# Altium integrated library STMicroelectronics STM32 L1.IntLib: 169 symbols (part 14 of 20)
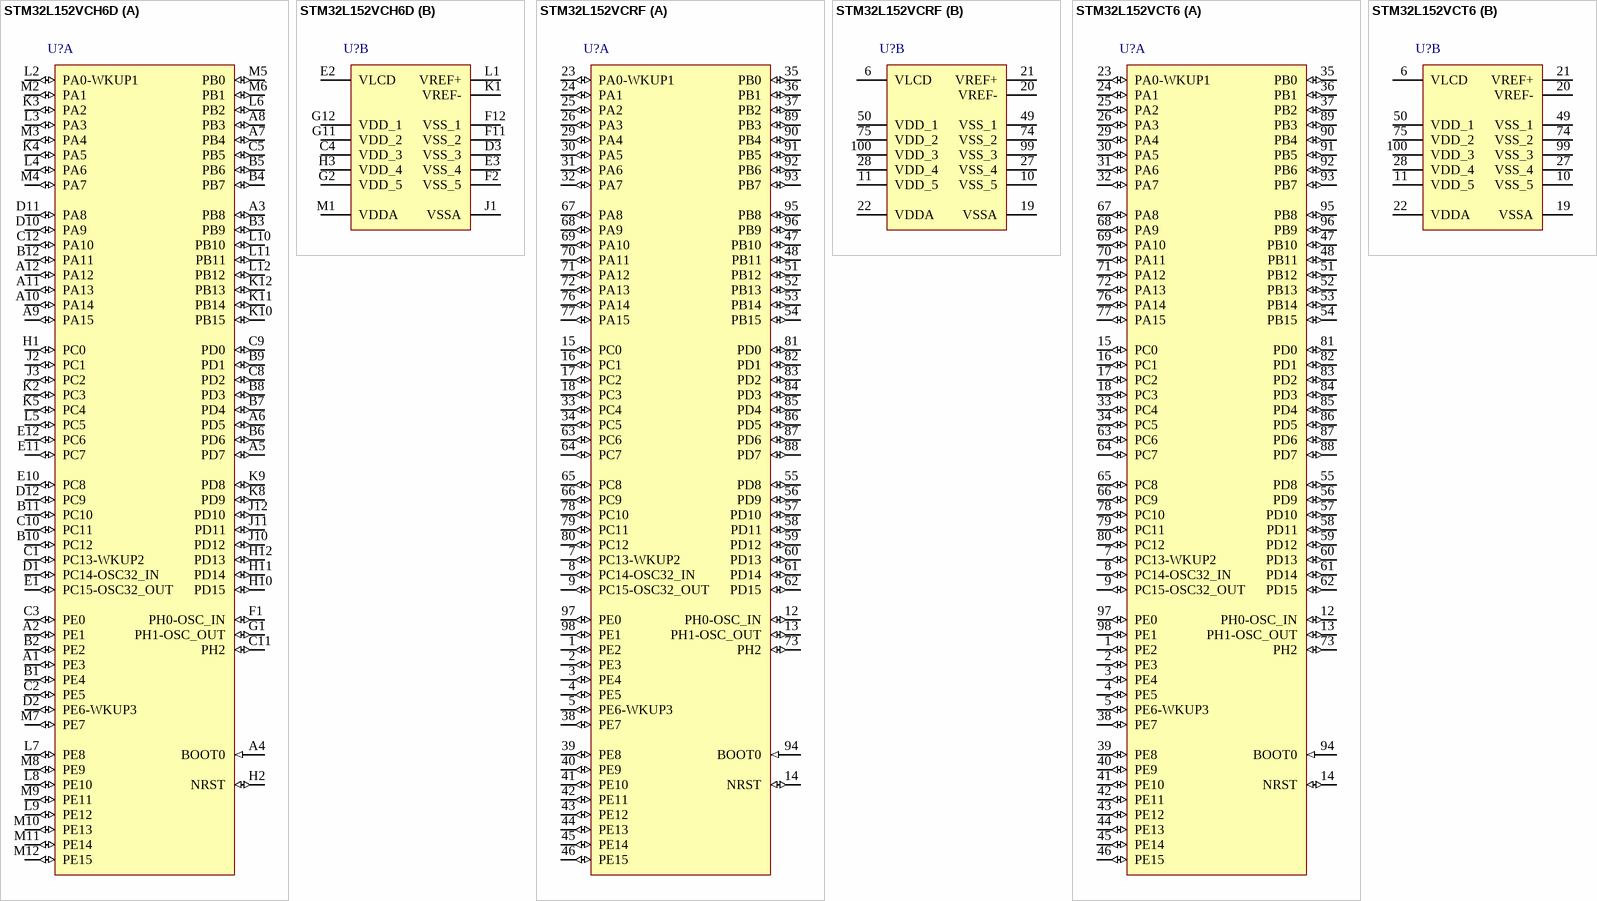
[diagram p47: symbols STM32L152VCH6D to STM32L152VCT6]

## STM32L152VCT6
designator U?
ARM Cortex-M3 32-bit MCU, 256 KB Flash, 32 KB Internal RAM, 83 I/Os, 100-pin LQFP, -40 to 85 degC, Tray; Manufacturer: STMicroelectronics; PartNumber: STM32L152VCT6; D/A Converter: 2x12-bit (2 Channel); Data E2PROM nom (B): 8192; Display controller: LCD 4x44/8x40; FLASH Size (Prog) (kB): 256; I/Os (High Current): 83; Internal RAM Size (kB): 32; Supply Voltage(Vcc) min (V): 1.65; DatasheetVersion: Rev. 3; PackageVersion: Rev. 1, 06/2013; PackageReference: LQFP100; PackageDescription: 100-Pin Low Profile Quad Flat Package, 14 x 14 mm Body, 0.5 mm Pitch; Core: ARM Cortex-M3; Operating Frequency(F) (Processor speed) (MHz): 32; Packing: Tray; Mounting Technology: Surface Mount; ComponentLink1Description: Manufacturer URL; ComponentLink1URL: http://www.st.com/web/en/home.html; ComponentLink2Description: Datasheet; ComponentLink2URL: http://www.st.com/st-web-ui/static/active/en/resource/technical/document/datasheet/DM00048356.pdf; ComponentLink3Description: Package Specification; ComponentLink3URL: http://www.st.com/st-web-ui/static/active/en/resource/technical/document/data_brief/DM00071938.pdf
footprint STM-LQFP100_N (Thin QFP, 100-Leads, Body 14x14mm, Pitch 0.5mm, IPC Medium Density)
footprint STM-LQFP100_L (Thin QFP, 100-Leads, Body 14x14mm, Pitch 0.5mm, IPC High Density)
footprint STM-LQFP100_M (Thin QFP, 100-Leads, Body 14x14mm, Pitch 0.5mm, IPC Low Density)
footprint STM-LQFP100_V (Thin QFP, 100-Leads, Body 14x14mm, Pitch 0.5mm, ST Recommended)
part A pins: 1 PE2 (io) "PE2/TIM3_ETR/LCD_SEG38/TRACECLK", 2 PE3 (io) "PE3/TIM3_CH1/LCD_SEG39/TRACED0", 3 PE4 (io) "PE4/TIM3_CH2/TRACED1", 4 PE5 (io) "PE5/TIM9_CH1/TRACED2", 5 PE6-WKUP3 (io) "PE6-WKUP3/PE6/WKUP3/RTC_TAMP3/TIM9_CH2/TRACED3", 7 PC13-WKUP2 (io) "PC13-WKUP2/PC13/WKUP2/RTC_TAMP1/RTC_TS/RTC_OUT", 8 PC14-OSC32_IN (io) "PC14-OSC32_IN/PC14/OSC32_IN", 9 PC15-OSC32_OUT (io) "PC15-OSC32_OUT/PC15/OSC32_OUT", 12 PH0-OSC_IN (io) "PH0-OSC_IN/PH0/OSC_IN", 13 PH1-OSC_OUT (io) "PH1-OSC_OUT/PH1/OSC_OUT", 14 NRST (io), 15 PC0 (io) "PC0/LCD_SEG18/ADC_IN10/COMP1_INP", 16 PC1 (io) "PC1/LCD_SEG19/ADC_IN11/COMP1_INP", 17 PC2 (io) "PC2/LCD_SEG20/ADC_IN12/COMP1_INP", 18 PC3 (io) "PC3/LCD_SEG21/ADC_IN13/COMP1_INP", 23 PA0-WKUP1 (io) "PA0-WKUP1/PA0/WKUP1/RTC_TAMP2/TIM2_CH1_ETR/TIM5_CH1/USART2_CTS/ADC_IN0/COMP1_INP", 24 PA1 (io) "PA1/TIM2_CH2/TIM5_CH2/USART2_RTS/LCD_SEG0/ADC_IN1/COMP1_INP/OPAMP1_VINP", 25 PA2 (io) "PA2/TIM2_CH3/TIM5_CH3/TIM9_CH1/USART2_TX/LCD_SEG1/ADC_IN2/COMP1_INP/OPAMP1_VINM", 26 PA3 (io) "PA3/TIM2_CH4/TIM5_CH4/TIM9_CH2/USART2_RX/LCD_SEG2/ADC_IN3/COMP1_INP/OPAMP1_VOUT", 29 PA4 (io) "PA4/SPI1_NSS/SPI3_NSS/I2S3_WS/USART2_CK/ADC_IN4/DAC_OUT1/COMP1_INP", 30 PA5 (io) "PA5/TIM2_CH1_ETR/SPI1_SCK/ADC_IN5/DAC_OUT2/COMP1_INP", 31 PA6 (io) "PA6/TIM3_CH1/TIM10_CH1/SPI1_MISO/LCD_SEG3/ADC_IN6/COMP1_INP/OPAMP2_VINP", 32 PA7 (io) "PA7/TIM3_CH2/TIM11_CH1/SPI1_MOSI/LCD_SEG4/ADC_IN7/COMP1_INP/OPAMP2_VINM", 33 PC4 (io) "PC4/LCD_SEG22/ADC_IN14/COMP1_INP", 34 PC5 (io) "PC5/LCD_SEG23/ADC_IN15/COMP1_INP", 35 PB0 (io) "PB0/TIM3_CH3/LCD_SEG5/ADC_IN8/COMP1_INP/VREF_OUT/OPAMP2_VOUT", 36 PB1 (io) "PB1/TIM3_CH4/LCD_SEG6/ADC_IN9/COMP1_INP/VREF_OUT", 37 PB2 (io) "PB2/BOOT1/COMP1_INP", 38 PE7 (io) "PE7/ADC_IN22/COMP1_INP", 39 PE8 (io) "PE8/ADC_IN23/COMP1_INP", 40 PE9 (io) "PE9/TIM2_CH1_ETR/ADC_IN24/COMP1_INP/TIM5_ETR", 41 PE10 (io) "PE10/TIM2_CH2/ADC_IN25/COMP1_INP", 42 PE11 (io) "PE11/TIM2_CH3", 43 PE12 (io) "PE12/TIM2_CH4/SPI1_NSS", 44 PE13 (io) "PE13/SPI1_SCK", 45 PE14 (io) "PE14/SPI1_MISO", 46 PE15 (io) "PE15/SPI1_MOSI", 47 PB10 (io) "PB10/TIM2_CH3/I2C2_SCL/USART3_TX/LCD_SEG10", 48 PB11 (io) "PB11/TIM2_CH4/I2C2_SDA/USART3_RX/LCD_SEG11", 51 PB12 (io) "PB12/TIM10_CH1/I2C2_SMBA/SPI2_NSS/I2S2_WS/USART3_CK/LCD_SEG12/ADC_IN18/COMP1_INP", 52 PB13 (io) "PB13/TIM9_CH1/SPI2_SCK/I2S2_CK/USART3_CTS/LCD_SEG13/ADC_IN19/COMP1_INP", 53 PB14 (io) "PB14/TIM9_CH2/SPI2_MISO/USART3_RTS/LCD_SEG14/ADC_IN20/COMP1_INP", 54 PB15 (io) "PB15/TIM11_CH1/SPI2_MOSI/I2S2_SD/LCD_SEG15/ADC_IN21/COMP1_INP/RTC_REFIN", 55 PD8 (io) "PD8/USART3_TX/LCD_SEG28", 56 PD9 (io) "PD9/USART3_RX/LCD_SEG29", 57 PD10 (io) "PD10/USART3_CK/LCD_SEG30", 58 PD11 (io) "PD11/USART3_CTS/LCD_SEG31", 59 PD12 (io) "PD12/TIM4_CH1/USART3_RTS/LCD_SEG32", 60 PD13 (io) "PD13/TIM4_CH2/LCD_SEG33", 61 PD14 (io) "PD14/TIM4_CH3/LCD_SEG34", 62 PD15 (io) "PD15/TIM4_CH4/LCD_SEG35", 63 PC6 (io) "PC6/TIM3_CH1/I2S2_MCK/LCD_SEG24", 64 PC7 (io) "PC7/TIM3_CH2/I2S3_MCK/LCD_SEG25", 65 PC8 (io) "PC8/TIM3_CH3/LCD_SEG26", 66 PC9 (io) "PC9/TIM3_CH4/LCD_SEG27", 67 PA8 (io) "PA8/USART1_CK/MCO/LCD_COM0", 68 PA9 (io) "PA9/USART1_TX/LCD_COM1", 69 PA10 (io) "PA10/USART1_RX/LCD_COM2", 70 PA11 (io) "PA11/USART1_CTS/USB_DM/SPI1_MISO", 71 PA12 (io) "PA12/USART1_RTS/USB_DP/SPI1_MOSI", 72 PA13 (io) "PA13/JTMS-SWDAT", 73 PH2 (io), 76 PA14 (io) "PA14/JTCK-SWCLK", 77 PA15 (io) "PA15/JTDI/TIM2_CH1_ETR/SPI1_NSS/SPI3_NSS/I2S3_WS/LCD_SEG17", 78 PC10 (io) "PC10/SPI3_SCK/I2S3_CK/USART3_TX/LCD_SEG28/LCD_SEG40/LCD_COM4", 79 PC11 (io) "PC11/SPI3_MISO/USART3_RX/LCD_SEG29/LCD_SEG41/LCD_COM5", 80 PC12 (io) "PC12/SPI3_MOSI/I2S3_SD/USART3_CK/LCD_SEG30/LCD_SEG42/LCD_COM6", 81 PD0 (io) "PD0/TIM9_CH1/SPI2_NSS/I2S2_WS", 82 PD1 (io) "PD1/SPI2_SCK/I2S2_CK", 83 PD2 (io) "PD2/TIM3_ETR/LCD_SEG31/LCD_SEG43/LCD_COM7", 84 PD3 (io) "PD3/SPI2_MISO/USART2_CTS", 85 PD4 (io) "PD4/SPI2_MOSI/I2S2_SD/USART2_RTS", 86 PD5 (io) "PD5/USART2_TX", 87 PD6 (io) "PD6/USART2_RX", 88 PD7 (io) "PD7/TIM9_CH2/USART2_CK", 89 PB3 (io) "PB3/JTDO/TIM2_CH2/SPI1_SCK/SPI3_SCK/I2S3_CK/LCD_SEG7/COMP2_INM", 90 PB4 (io) "PB4/NJTRST/TIM3_CH1/SPI1_MISO/SPI3_MISO/LCD_SEG8/COMP2_INP", 91 PB5 (io) "PB5/TIM3_CH2/I2C1_SMBA/SPI1_MOSI/SPI3_MOSI/I2S3_SD/LCD_SEG9/COMP2_INP", 92 PB6 (io) "PB6/TIM4_CH1/I2C1_SCL/USART1_TX/COMP2_INP", 93 PB7 (io) "PB7/TIM4_CH2/I2C1_SDA/USART1_RX/PVD_IN/COMP2_INP", 94 BOOT0 (in), 95 PB8 (io) "PB8/TIM4_CH3/TIM10_CH1/I2C1_SCL/LCD_SEG16", 96 PB9 (io) "PB9/TIM4_CH4/TIM11_CH1/I2C1_SDA/LCD_COM3", 97 PE0 (io) "PE0/TIM4_ETR/TIM10_CH1/LCD_SEG36", 98 PE1 (io) "PE1/TIM11_CH1/LCD_SEG37"
part B pins: 6 VLCD (power), 10 VSS_5 (power), 11 VDD_5 (power), 19 VSSA (power), 20 VREF- (power), 21 VREF+ (power), 22 VDDA (power), 27 VSS_4 (power), 28 VDD_4 (power), 49 VSS_1 (power), 50 VDD_1 (power), 74 VSS_2 (power), 75 VDD_2 (power), 99 VSS_3 (power), 100 VDD_3 (power)

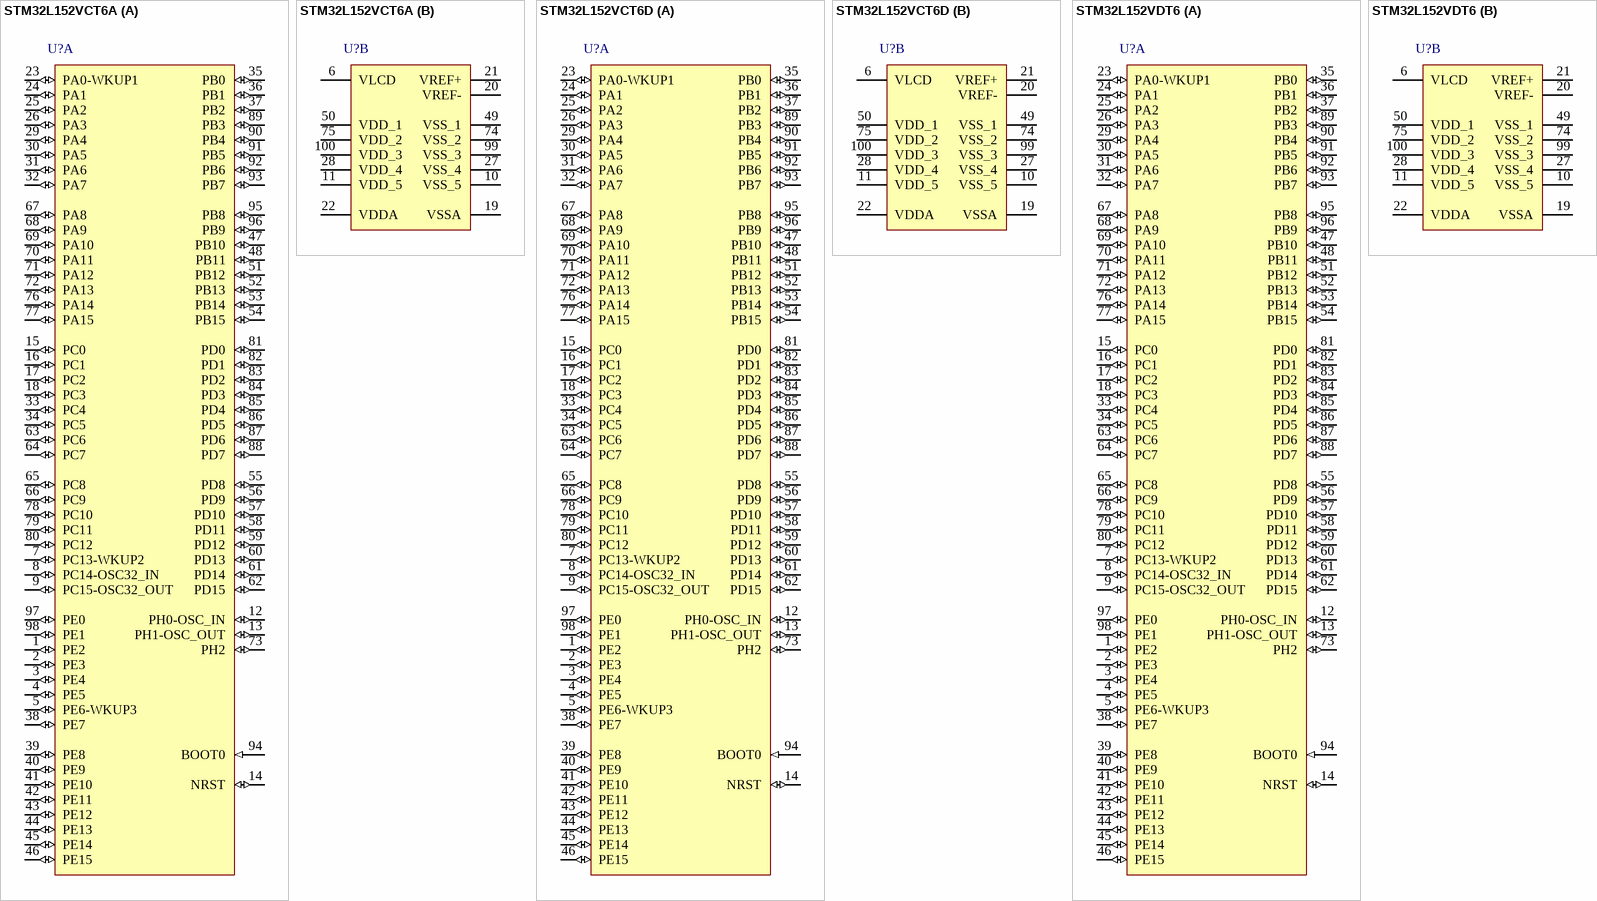
[diagram p23: symbols STM32L152VCT6A to STM32L152VDT6]

## STM32L152VCT6A
designator U?
ARM Cortex-M3 32-bit MCU, 256 KB Flash, 32 KB Internal RAM, 83 I/Os, 100-pin LQFP, -40 to 85 degC, Tray; Manufacturer: STMicroelectronics; PartNumber: STM32L152VCT6A; D/A Converter: 2x12-bit (2 Channel); Data E2PROM nom (B): 8192; Display controller: LCD 4x44/8x40; FLASH Size (Prog) (kB): 256; I/Os (High Current): 83; Internal RAM Size (kB): 32; Supply Voltage(Vcc) min (V): 1.65; DatasheetVersion: Rev. 3; PackageVersion: Rev. 1, 06/2013; PackageReference: LQFP100; PackageDescription: 100-Pin Low Profile Quad Flat Package, 14 x 14 mm Body, 0.5 mm Pitch; Core: ARM Cortex-M3; Operating Frequency(F) (Processor speed) (MHz): 32; Packing: Tray; Mounting Technology: Surface Mount; ComponentLink1Description: Manufacturer URL; ComponentLink1URL: http://www.st.com/web/en/home.html; ComponentLink2Description: Datasheet; ComponentLink2URL: http://www.st.com/st-web-ui/static/active/en/resource/technical/document/datasheet/DM00048356.pdf; ComponentLink3Description: Package Specification; ComponentLink3URL: http://www.st.com/st-web-ui/static/active/en/resource/technical/document/data_brief/DM00071938.pdf
footprint STM-LQFP100_N (Thin QFP, 100-Leads, Body 14x14mm, Pitch 0.5mm, IPC Medium Density)
footprint STM-LQFP100_L (Thin QFP, 100-Leads, Body 14x14mm, Pitch 0.5mm, IPC High Density)
footprint STM-LQFP100_M (Thin QFP, 100-Leads, Body 14x14mm, Pitch 0.5mm, IPC Low Density)
footprint STM-LQFP100_V (Thin QFP, 100-Leads, Body 14x14mm, Pitch 0.5mm, ST Recommended)
part A pins: 1 PE2 (io) "PE2/TIM3_ETR/LCD_SEG38/TRACECLK", 2 PE3 (io) "PE3/TIM3_CH1/LCD_SEG39/TRACED0", 3 PE4 (io) "PE4/TIM3_CH2/TRACED1", 4 PE5 (io) "PE5/TIM9_CH1/TRACED2", 5 PE6-WKUP3 (io) "PE6-WKUP3/PE6/WKUP3/RTC_TAMP3/TIM9_CH2/TRACED3", 7 PC13-WKUP2 (io) "PC13-WKUP2/PC13/WKUP2/RTC_TAMP1/RTC_TS/RTC_OUT", 8 PC14-OSC32_IN (io) "PC14-OSC32_IN/PC14/OSC32_IN", 9 PC15-OSC32_OUT (io) "PC15-OSC32_OUT/PC15/OSC32_OUT", 12 PH0-OSC_IN (io) "PH0-OSC_IN/PH0/OSC_IN", 13 PH1-OSC_OUT (io) "PH1-OSC_OUT/PH1/OSC_OUT", 14 NRST (io), 15 PC0 (io) "PC0/LCD_SEG18/ADC_IN10/COMP1_INP", 16 PC1 (io) "PC1/LCD_SEG19/ADC_IN11/COMP1_INP", 17 PC2 (io) "PC2/LCD_SEG20/ADC_IN12/COMP1_INP", 18 PC3 (io) "PC3/LCD_SEG21/ADC_IN13/COMP1_INP", 23 PA0-WKUP1 (io) "PA0-WKUP1/PA0/WKUP1/RTC_TAMP2/TIM2_CH1_ETR/TIM5_CH1/USART2_CTS/ADC_IN0/COMP1_INP", 24 PA1 (io) "PA1/TIM2_CH2/TIM5_CH2/USART2_RTS/LCD_SEG0/ADC_IN1/COMP1_INP/OPAMP1_VINP", 25 PA2 (io) "PA2/TIM2_CH3/TIM5_CH3/TIM9_CH1/USART2_TX/LCD_SEG1/ADC_IN2/COMP1_INP/OPAMP1_VINM", 26 PA3 (io) "PA3/TIM2_CH4/TIM5_CH4/TIM9_CH2/USART2_RX/LCD_SEG2/ADC_IN3/COMP1_INP/OPAMP1_VOUT", 29 PA4 (io) "PA4/SPI1_NSS/SPI3_NSS/I2S3_WS/USART2_CK/ADC_IN4/DAC_OUT1/COMP1_INP", 30 PA5 (io) "PA5/TIM2_CH1_ETR/SPI1_SCK/ADC_IN5/DAC_OUT2/COMP1_INP", 31 PA6 (io) "PA6/TIM3_CH1/TIM10_CH1/SPI1_MISO/LCD_SEG3/ADC_IN6/COMP1_INP/OPAMP2_VINP", 32 PA7 (io) "PA7/TIM3_CH2/TIM11_CH1/SPI1_MOSI/LCD_SEG4/ADC_IN7/COMP1_INP/OPAMP2_VINM", 33 PC4 (io) "PC4/LCD_SEG22/ADC_IN14/COMP1_INP", 34 PC5 (io) "PC5/LCD_SEG23/ADC_IN15/COMP1_INP", 35 PB0 (io) "PB0/TIM3_CH3/LCD_SEG5/ADC_IN8/COMP1_INP/VREF_OUT/OPAMP2_VOUT", 36 PB1 (io) "PB1/TIM3_CH4/LCD_SEG6/ADC_IN9/COMP1_INP/VREF_OUT", 37 PB2 (io) "PB2/BOOT1/COMP1_INP", 38 PE7 (io) "PE7/ADC_IN22/COMP1_INP", 39 PE8 (io) "PE8/ADC_IN23/COMP1_INP", 40 PE9 (io) "PE9/TIM2_CH1_ETR/ADC_IN24/COMP1_INP/TIM5_ETR", 41 PE10 (io) "PE10/TIM2_CH2/ADC_IN25/COMP1_INP", 42 PE11 (io) "PE11/TIM2_CH3", 43 PE12 (io) "PE12/TIM2_CH4/SPI1_NSS", 44 PE13 (io) "PE13/SPI1_SCK", 45 PE14 (io) "PE14/SPI1_MISO", 46 PE15 (io) "PE15/SPI1_MOSI", 47 PB10 (io) "PB10/TIM2_CH3/I2C2_SCL/USART3_TX/LCD_SEG10", 48 PB11 (io) "PB11/TIM2_CH4/I2C2_SDA/USART3_RX/LCD_SEG11", 51 PB12 (io) "PB12/TIM10_CH1/I2C2_SMBA/SPI2_NSS/I2S2_WS/USART3_CK/LCD_SEG12/ADC_IN18/COMP1_INP", 52 PB13 (io) "PB13/TIM9_CH1/SPI2_SCK/I2S2_CK/USART3_CTS/LCD_SEG13/ADC_IN19/COMP1_INP", 53 PB14 (io) "PB14/TIM9_CH2/SPI2_MISO/USART3_RTS/LCD_SEG14/ADC_IN20/COMP1_INP", 54 PB15 (io) "PB15/TIM11_CH1/SPI2_MOSI/I2S2_SD/LCD_SEG15/ADC_IN21/COMP1_INP/RTC_REFIN", 55 PD8 (io) "PD8/USART3_TX/LCD_SEG28", 56 PD9 (io) "PD9/USART3_RX/LCD_SEG29", 57 PD10 (io) "PD10/USART3_CK/LCD_SEG30", 58 PD11 (io) "PD11/USART3_CTS/LCD_SEG31", 59 PD12 (io) "PD12/TIM4_CH1/USART3_RTS/LCD_SEG32", 60 PD13 (io) "PD13/TIM4_CH2/LCD_SEG33", 61 PD14 (io) "PD14/TIM4_CH3/LCD_SEG34", 62 PD15 (io) "PD15/TIM4_CH4/LCD_SEG35", 63 PC6 (io) "PC6/TIM3_CH1/I2S2_MCK/LCD_SEG24", 64 PC7 (io) "PC7/TIM3_CH2/I2S3_MCK/LCD_SEG25", 65 PC8 (io) "PC8/TIM3_CH3/LCD_SEG26", 66 PC9 (io) "PC9/TIM3_CH4/LCD_SEG27", 67 PA8 (io) "PA8/USART1_CK/MCO/LCD_COM0", 68 PA9 (io) "PA9/USART1_TX/LCD_COM1", 69 PA10 (io) "PA10/USART1_RX/LCD_COM2", 70 PA11 (io) "PA11/USART1_CTS/USB_DM/SPI1_MISO", 71 PA12 (io) "PA12/USART1_RTS/USB_DP/SPI1_MOSI", 72 PA13 (io) "PA13/JTMS-SWDAT", 73 PH2 (io), 76 PA14 (io) "PA14/JTCK-SWCLK", 77 PA15 (io) "PA15/JTDI/TIM2_CH1_ETR/SPI1_NSS/SPI3_NSS/I2S3_WS/LCD_SEG17", 78 PC10 (io) "PC10/SPI3_SCK/I2S3_CK/USART3_TX/LCD_SEG28/LCD_SEG40/LCD_COM4", 79 PC11 (io) "PC11/SPI3_MISO/USART3_RX/LCD_SEG29/LCD_SEG41/LCD_COM5", 80 PC12 (io) "PC12/SPI3_MOSI/I2S3_SD/USART3_CK/LCD_SEG30/LCD_SEG42/LCD_COM6", 81 PD0 (io) "PD0/TIM9_CH1/SPI2_NSS/I2S2_WS", 82 PD1 (io) "PD1/SPI2_SCK/I2S2_CK", 83 PD2 (io) "PD2/TIM3_ETR/LCD_SEG31/LCD_SEG43/LCD_COM7", 84 PD3 (io) "PD3/SPI2_MISO/USART2_CTS", 85 PD4 (io) "PD4/SPI2_MOSI/I2S2_SD/USART2_RTS", 86 PD5 (io) "PD5/USART2_TX", 87 PD6 (io) "PD6/USART2_RX", 88 PD7 (io) "PD7/TIM9_CH2/USART2_CK", 89 PB3 (io) "PB3/JTDO/TIM2_CH2/SPI1_SCK/SPI3_SCK/I2S3_CK/LCD_SEG7/COMP2_INM", 90 PB4 (io) "PB4/NJTRST/TIM3_CH1/SPI1_MISO/SPI3_MISO/LCD_SEG8/COMP2_INP", 91 PB5 (io) "PB5/TIM3_CH2/I2C1_SMBA/SPI1_MOSI/SPI3_MOSI/I2S3_SD/LCD_SEG9/COMP2_INP", 92 PB6 (io) "PB6/TIM4_CH1/I2C1_SCL/USART1_TX/COMP2_INP", 93 PB7 (io) "PB7/TIM4_CH2/I2C1_SDA/USART1_RX/PVD_IN/COMP2_INP", 94 BOOT0 (in), 95 PB8 (io) "PB8/TIM4_CH3/TIM10_CH1/I2C1_SCL/LCD_SEG16", 96 PB9 (io) "PB9/TIM4_CH4/TIM11_CH1/I2C1_SDA/LCD_COM3", 97 PE0 (io) "PE0/TIM4_ETR/TIM10_CH1/LCD_SEG36", 98 PE1 (io) "PE1/TIM11_CH1/LCD_SEG37"
part B pins: 6 VLCD (power), 10 VSS_5 (power), 11 VDD_5 (power), 19 VSSA (power), 20 VREF- (power), 21 VREF+ (power), 22 VDDA (power), 27 VSS_4 (power), 28 VDD_4 (power), 49 VSS_1 (power), 50 VDD_1 (power), 74 VSS_2 (power), 75 VDD_2 (power), 99 VSS_3 (power), 100 VDD_3 (power)

## STM32L152VCT6D
designator U?
ARM Cortex-M3 32-bit MCU, 256 KB Flash, 32 KB Internal RAM, 83 I/Os, 100-pin LQFP, -40 to 85 degC, Tray; Manufacturer: STMicroelectronics; PartNumber: STM32L152VCT6D; D/A Converter: 2x12-bit (2 Channel); Data E2PROM nom (B): 8192; Display controller: LCD 4x44/8x40; FLASH Size (Prog) (kB): 256; I/Os (High Current): 83; Internal RAM Size (kB): 32; Supply Voltage(Vcc) min (V): 1.65; DatasheetVersion: Rev. 3; PackageVersion: Rev. 1, 06/2013; PackageReference: LQFP100; PackageDescription: 100-Pin Low Profile Quad Flat Package, 14 x 14 mm Body, 0.5 mm Pitch; Core: ARM Cortex-M3; Operating Frequency(F) (Processor speed) (MHz): 32; Packing: Tray; Mounting Technology: Surface Mount; ComponentLink1Description: Manufacturer URL; ComponentLink1URL: http://www.st.com/web/en/home.html; ComponentLink2Description: Datasheet; ComponentLink2URL: http://www.st.com/st-web-ui/static/active/en/resource/technical/document/datasheet/DM00048356.pdf; ComponentLink3Description: Package Specification; ComponentLink3URL: http://www.st.com/st-web-ui/static/active/en/resource/technical/document/data_brief/DM00071938.pdf
footprint STM-LQFP100_N (Thin QFP, 100-Leads, Body 14x14mm, Pitch 0.5mm, IPC Medium Density)
footprint STM-LQFP100_L (Thin QFP, 100-Leads, Body 14x14mm, Pitch 0.5mm, IPC High Density)
footprint STM-LQFP100_M (Thin QFP, 100-Leads, Body 14x14mm, Pitch 0.5mm, IPC Low Density)
footprint STM-LQFP100_V (Thin QFP, 100-Leads, Body 14x14mm, Pitch 0.5mm, ST Recommended)
part A pins: 1 PE2 (io) "PE2/TIM3_ETR/LCD_SEG38/TRACECLK", 2 PE3 (io) "PE3/TIM3_CH1/LCD_SEG39/TRACED0", 3 PE4 (io) "PE4/TIM3_CH2/TRACED1", 4 PE5 (io) "PE5/TIM9_CH1/TRACED2", 5 PE6-WKUP3 (io) "PE6-WKUP3/PE6/WKUP3/RTC_TAMP3/TIM9_CH2/TRACED3", 7 PC13-WKUP2 (io) "PC13-WKUP2/PC13/WKUP2/RTC_TAMP1/RTC_TS/RTC_OUT", 8 PC14-OSC32_IN (io) "PC14-OSC32_IN/PC14/OSC32_IN", 9 PC15-OSC32_OUT (io) "PC15-OSC32_OUT/PC15/OSC32_OUT", 12 PH0-OSC_IN (io) "PH0-OSC_IN/PH0/OSC_IN", 13 PH1-OSC_OUT (io) "PH1-OSC_OUT/PH1/OSC_OUT", 14 NRST (io), 15 PC0 (io) "PC0/LCD_SEG18/ADC_IN10/COMP1_INP", 16 PC1 (io) "PC1/LCD_SEG19/ADC_IN11/COMP1_INP", 17 PC2 (io) "PC2/LCD_SEG20/ADC_IN12/COMP1_INP", 18 PC3 (io) "PC3/LCD_SEG21/ADC_IN13/COMP1_INP", 23 PA0-WKUP1 (io) "PA0-WKUP1/PA0/WKUP1/RTC_TAMP2/TIM2_CH1_ETR/TIM5_CH1/USART2_CTS/ADC_IN0/COMP1_INP", 24 PA1 (io) "PA1/TIM2_CH2/TIM5_CH2/USART2_RTS/LCD_SEG0/ADC_IN1/COMP1_INP/OPAMP1_VINP", 25 PA2 (io) "PA2/TIM2_CH3/TIM5_CH3/TIM9_CH1/USART2_TX/LCD_SEG1/ADC_IN2/COMP1_INP/OPAMP1_VINM", 26 PA3 (io) "PA3/TIM2_CH4/TIM5_CH4/TIM9_CH2/USART2_RX/LCD_SEG2/ADC_IN3/COMP1_INP/OPAMP1_VOUT", 29 PA4 (io) "PA4/SPI1_NSS/SPI3_NSS/I2S3_WS/USART2_CK/ADC_IN4/DAC_OUT1/COMP1_INP", 30 PA5 (io) "PA5/TIM2_CH1_ETR/SPI1_SCK/ADC_IN5/DAC_OUT2/COMP1_INP", 31 PA6 (io) "PA6/TIM3_CH1/TIM10_CH1/SPI1_MISO/LCD_SEG3/ADC_IN6/COMP1_INP/OPAMP2_VINP", 32 PA7 (io) "PA7/TIM3_CH2/TIM11_CH1/SPI1_MOSI/LCD_SEG4/ADC_IN7/COMP1_INP/OPAMP2_VINM", 33 PC4 (io) "PC4/LCD_SEG22/ADC_IN14/COMP1_INP", 34 PC5 (io) "PC5/LCD_SEG23/ADC_IN15/COMP1_INP", 35 PB0 (io) "PB0/TIM3_CH3/LCD_SEG5/ADC_IN8/COMP1_INP/VREF_OUT/OPAMP2_VOUT", 36 PB1 (io) "PB1/TIM3_CH4/LCD_SEG6/ADC_IN9/COMP1_INP/VREF_OUT", 37 PB2 (io) "PB2/BOOT1/COMP1_INP", 38 PE7 (io) "PE7/ADC_IN22/COMP1_INP", 39 PE8 (io) "PE8/ADC_IN23/COMP1_INP", 40 PE9 (io) "PE9/TIM2_CH1_ETR/ADC_IN24/COMP1_INP/TIM5_ETR", 41 PE10 (io) "PE10/TIM2_CH2/ADC_IN25/COMP1_INP", 42 PE11 (io) "PE11/TIM2_CH3", 43 PE12 (io) "PE12/TIM2_CH4/SPI1_NSS", 44 PE13 (io) "PE13/SPI1_SCK", 45 PE14 (io) "PE14/SPI1_MISO", 46 PE15 (io) "PE15/SPI1_MOSI", 47 PB10 (io) "PB10/TIM2_CH3/I2C2_SCL/USART3_TX/LCD_SEG10", 48 PB11 (io) "PB11/TIM2_CH4/I2C2_SDA/USART3_RX/LCD_SEG11", 51 PB12 (io) "PB12/TIM10_CH1/I2C2_SMBA/SPI2_NSS/I2S2_WS/USART3_CK/LCD_SEG12/ADC_IN18/COMP1_INP", 52 PB13 (io) "PB13/TIM9_CH1/SPI2_SCK/I2S2_CK/USART3_CTS/LCD_SEG13/ADC_IN19/COMP1_INP", 53 PB14 (io) "PB14/TIM9_CH2/SPI2_MISO/USART3_RTS/LCD_SEG14/ADC_IN20/COMP1_INP", 54 PB15 (io) "PB15/TIM11_CH1/SPI2_MOSI/I2S2_SD/LCD_SEG15/ADC_IN21/COMP1_INP/RTC_REFIN", 55 PD8 (io) "PD8/USART3_TX/LCD_SEG28", 56 PD9 (io) "PD9/USART3_RX/LCD_SEG29", 57 PD10 (io) "PD10/USART3_CK/LCD_SEG30", 58 PD11 (io) "PD11/USART3_CTS/LCD_SEG31", 59 PD12 (io) "PD12/TIM4_CH1/USART3_RTS/LCD_SEG32", 60 PD13 (io) "PD13/TIM4_CH2/LCD_SEG33", 61 PD14 (io) "PD14/TIM4_CH3/LCD_SEG34", 62 PD15 (io) "PD15/TIM4_CH4/LCD_SEG35", 63 PC6 (io) "PC6/TIM3_CH1/I2S2_MCK/LCD_SEG24", 64 PC7 (io) "PC7/TIM3_CH2/I2S3_MCK/LCD_SEG25", 65 PC8 (io) "PC8/TIM3_CH3/LCD_SEG26", 66 PC9 (io) "PC9/TIM3_CH4/LCD_SEG27", 67 PA8 (io) "PA8/USART1_CK/MCO/LCD_COM0", 68 PA9 (io) "PA9/USART1_TX/LCD_COM1", 69 PA10 (io) "PA10/USART1_RX/LCD_COM2", 70 PA11 (io) "PA11/USART1_CTS/USB_DM/SPI1_MISO", 71 PA12 (io) "PA12/USART1_RTS/USB_DP/SPI1_MOSI", 72 PA13 (io) "PA13/JTMS-SWDAT", 73 PH2 (io), 76 PA14 (io) "PA14/JTCK-SWCLK", 77 PA15 (io) "PA15/JTDI/TIM2_CH1_ETR/SPI1_NSS/SPI3_NSS/I2S3_WS/LCD_SEG17", 78 PC10 (io) "PC10/SPI3_SCK/I2S3_CK/USART3_TX/LCD_SEG28/LCD_SEG40/LCD_COM4", 79 PC11 (io) "PC11/SPI3_MISO/USART3_RX/LCD_SEG29/LCD_SEG41/LCD_COM5", 80 PC12 (io) "PC12/SPI3_MOSI/I2S3_SD/USART3_CK/LCD_SEG30/LCD_SEG42/LCD_COM6", 81 PD0 (io) "PD0/TIM9_CH1/SPI2_NSS/I2S2_WS", 82 PD1 (io) "PD1/SPI2_SCK/I2S2_CK", 83 PD2 (io) "PD2/TIM3_ETR/LCD_SEG31/LCD_SEG43/LCD_COM7", 84 PD3 (io) "PD3/SPI2_MISO/USART2_CTS", 85 PD4 (io) "PD4/SPI2_MOSI/I2S2_SD/USART2_RTS", 86 PD5 (io) "PD5/USART2_TX", 87 PD6 (io) "PD6/USART2_RX", 88 PD7 (io) "PD7/TIM9_CH2/USART2_CK", 89 PB3 (io) "PB3/JTDO/TIM2_CH2/SPI1_SCK/SPI3_SCK/I2S3_CK/LCD_SEG7/COMP2_INM", 90 PB4 (io) "PB4/NJTRST/TIM3_CH1/SPI1_MISO/SPI3_MISO/LCD_SEG8/COMP2_INP", 91 PB5 (io) "PB5/TIM3_CH2/I2C1_SMBA/SPI1_MOSI/SPI3_MOSI/I2S3_SD/LCD_SEG9/COMP2_INP", 92 PB6 (io) "PB6/TIM4_CH1/I2C1_SCL/USART1_TX/COMP2_INP", 93 PB7 (io) "PB7/TIM4_CH2/I2C1_SDA/USART1_RX/PVD_IN/COMP2_INP", 94 BOOT0 (in), 95 PB8 (io) "PB8/TIM4_CH3/TIM10_CH1/I2C1_SCL/LCD_SEG16", 96 PB9 (io) "PB9/TIM4_CH4/TIM11_CH1/I2C1_SDA/LCD_COM3", 97 PE0 (io) "PE0/TIM4_ETR/TIM10_CH1/LCD_SEG36", 98 PE1 (io) "PE1/TIM11_CH1/LCD_SEG37"
part B pins: 6 VLCD (power), 10 VSS_5 (power), 11 VDD_5 (power), 19 VSSA (power), 20 VREF- (power), 21 VREF+ (power), 22 VDDA (power), 27 VSS_4 (power), 28 VDD_4 (power), 49 VSS_1 (power), 50 VDD_1 (power), 74 VSS_2 (power), 75 VDD_2 (power), 99 VSS_3 (power), 100 VDD_3 (power)

## STM32L152VDT6
designator U?
ARM Cortex-M3 32-bit MCU, 384 KB Flash, 48 KB Internal RAM, 83 I/Os, 100-pin LQFP, -40 to 85 degC, Tray; Manufacturer: STMicroelectronics; PartNumber: STM32L152VDT6; D/A Converter: 2x12-bit (2 Channel); Data E2PROM nom (B): 12288; FLASH Size (Prog) (kB): 384; I/Os (High Current): 83; Integrated op-amps: 3; Internal RAM Size (kB): 48; Operating Frequency(F) (Processor speed) (MHz): 32; Supply Voltage(Vcc) min (V): 1.65; DatasheetVersion: Rev. 6; PackageVersion: Rev. 1, 06/2013; PackageReference: LQFP100; PackageDescription: 100-Pin Low Profile Quad Flat Package, 14 x 14 mm Body, 0.5 mm Pitch; Core: ARM Cortex-M3; Packing: Tray; Mounting Technology: Surface Mount; ComponentLink1Description: Manufacturer URL; ComponentLink1URL: http://www.st.com/web/en/home.html; ComponentLink2Description: Datasheet; ComponentLink2URL: http://www.st.com/st-web-ui/static/active/en/resource/technical/document/datasheet/DM00034689.pdf; ComponentLink3Description: Package Specification; ComponentLink3URL: http://www.st.com/st-web-ui/static/active/en/resource/technical/document/data_brief/DM00071938.pdf
footprint STM-LQFP100_N (Thin QFP, 100-Leads, Body 14x14mm, Pitch 0.5mm, IPC Medium Density)
footprint STM-LQFP100_L (Thin QFP, 100-Leads, Body 14x14mm, Pitch 0.5mm, IPC High Density)
footprint STM-LQFP100_M (Thin QFP, 100-Leads, Body 14x14mm, Pitch 0.5mm, IPC Low Density)
footprint STM-LQFP100_V (Thin QFP, 100-Leads, Body 14x14mm, Pitch 0.5mm, ST Recommended)
part A pins: 1 PE2 (io) "PE2/TIM3_ETR/LCD_SEG38/FSMC_A23/TRACECLK", 2 PE3 (io) "PE3/TIM3_CH1/LCD_SEG39/FSMC_A19/TRACED0", 3 PE4 (io) "PE4/TIM3_CH2/FSMC_A20/TRACED1", 4 PE5 (io) "PE5/TIM9_CH1/FSMC_A21/TRACED2", 5 PE6-WKUP3 (io) "PE6-WKUP3/PE6/WKUP3/RTC_TAMP3/TIM9_CH2/TRACED3", 7 PC13-WKUP2 (io) "PC13-WKUP2/PC13/WKUP2/RTC_TAMP1/RTC_TS/RTC_OUT", 8 PC14-OSC32_IN (io) "PC14-OSC32_IN/PC14/OSC32_IN", 9 PC15-OSC32_OUT (io) "PC15-OSC32_OUT/PC15/OSC32_OUT", 12 PH0-OSC_IN (io) "PH0-OSC_IN/PH0/OSC_IN", 13 PH1-OSC_OUT (io) "PH1-OSC_OUT/PH1/OSC_OUT", 14 NRST (io), 15 PC0 (io) "PC0/LCD_SEG18/ADC_IN10/COMP1_INP", 16 PC1 (io) "PC1/LCD_SEG19/ADC_IN11/COMP1_INP/OPAMP3_VINP", 17 PC2 (io) "PC2/LCD_SEG20/ADC_IN12/COMP1_INP/OPAMP3_VINM", 18 PC3 (io) "PC3/LCD_SEG21/ADC_IN13/COMP1_INP/OPAMP3_VOUT", 23 PA0-WKUP1 (io) "PA0-WKUP1/PA0/WKUP1/RTC_TAMP2/TIM2_CH1_ETR/TIM5_CH1/USART2_CTS/ADC_IN0/COMP1_INP", 24 PA1 (io) "PA1/TIM2_CH2/TIM5_CH2/USART2_RTS/LCD_SEG0/ADC_IN1/COMP1_INP/OPAMP1_VINP", 25 PA2 (io) "PA2/TIM2_CH3/TIM5_CH3/TIM9_CH1/USART2_TX/LCD_SEG1/ADC_IN2/COMP1_INP/OPAMP1_VINM", 26 PA3 (io) "PA3/TIM2_CH4/TIM5_CH4/TIM9_CH2/USART2_RX/LCD_SEG2/ADC_IN3/COMP1_INP/OPAMP1_VOUT", 29 PA4 (io) "PA4/SPI1_NSS/SPI3_NSS/I2S3_WS/USART2_CK/ADC_IN4/DAC_OUT1/COMP1_INP", 30 PA5 (io) "PA5/TIM2_CH1_ETR/SPI1_SCK/ADC_IN5/DAC_OUT2/COMP1_INP", 31 PA6 (io) "PA6/TIM3_CH1/TIM10_CH1/SPI1_MISO/LCD_SEG3/ADC_IN6/COMP1_INP/OPAMP2_VINP", 32 PA7 (io) "PA7/TIM3_CH2/TIM11_CH1/SPI1_MOSI/LCD_SEG4/ADC_IN7/COMP1_INP/OPAMP2_VINM", 33 PC4 (io) "PC4/LCD_SEG22/ADC_IN14/COMP1_INP", 34 PC5 (io) "PC5/LCD_SEG23/ADC_IN15/COMP1_INP", 35 PB0 (io) "PB0/TIM3_CH3/LCD_SEG5/ADC_IN8/COMP1_INP/VREF_OUT/OPAMP2_VOUT", 36 PB1 (io) "PB1/TIM3_CH4/LCD_SEG6/ADC_IN9/COMP1_INP/VREF_OUT", 37 PB2 (io) "PB2/BOOT1/COMP1_INP", 38 PE7 (io) "PE7/FSMC_D4/ADC_IN22/COMP1_INP", 39 PE8 (io) "PE8/FSMC_D5/ADC_IN23/COMP1_INP", 40 PE9 (io) "PE9/TIM2_CH1_ETR/FSMC_D6/ADC_IN24/COMP1_INP", 41 PE10 (io) "PE10/TIM2_CH2/FSMC_D7/ADC_IN25/COMP1_INP", 42 PE11 (io) "PE11/TIM2_CH3/FSMC_D8", 43 PE12 (io) "PE12/TIM2_CH4/SPI1_NSS/FSMC_D9", 44 PE13 (io) "PE13/SPI1_SCK/FSMC_D10", 45 PE14 (io) "PE14/SPI1_MISO/FSMC_D11", 46 PE15 (io) "PE15/SPI1_MOSI/FSMC_D12", 47 PB10 (io) "PB10/TIM2_CH3/I2C2_SCL/USART3_TX/LCD_SEG10", 48 PB11 (io) "PB11/TIM2_CH4/I2C2_SDA/USART3_RX/LCD_SEG11", 51 PB12 (io) "PB12/TIM10_CH1/I2C2_SMBA/SPI2_NSS/I2S2_WS/USART3_CK/LCD_SEG12/ADC_IN18/COMP1_INP", 52 PB13 (io) "PB13/TIM9_CH1/SPI2_SCK/I2S2_CK/USART3_CTS/LCD_SEG13/ADC_IN19/COMP1_INP", 53 PB14 (io) "PB14/TIM9_CH2/SPI2_MISO/USART3_RTS/LCD_SEG14/ADC_IN20/COMP1_INP", 54 PB15 (io) "PB15/TIM11_CH1/SPI2_MOSI/I2S2_SD/LCD_SEG15/ADC_IN21/COMP1_INP/RTC_REFIN", 55 PD8 (io) "PD8/USART3_TX/LCD_SEG28/FSMC_D13", 56 PD9 (io) "PD9/USART3_RX/LCD_SEG29/FSMC_D14", 57 PD10 (io) "PD10/USART3_CK/LCD_SEG30/FSMC_D15", 58 PD11 (io) "PD11/USART3_CTS/LCD_SEG31/FSMC_A16", 59 PD12 (io) "PD12/TIM4_CH1/USART3_RTS/LCD_SEG32/FSMC_A17", 60 PD13 (io) "PD13/TIM4_CH2/LCD_SEG33/FSMC_A18", 61 PD14 (io) "PD14/TIM4_CH3/LCD_SEG34/FSMC_D0", 62 PD15 (io) "PD15/TIM4_CH4/LCD_SEG35/FSMC_D1", 63 PC6 (io) "PC6/TIM3_CH1/I2S2_MCK/LCD_SEG24/SDIO_D6", 64 PC7 (io) "PC7/TIM3_CH2/I2S3_MCK/LCD_SEG25/SDIO_D7", 65 PC8 (io) "PC8/TIM3_CH3/LCD_SEG26/SDIO_D0", 66 PC9 (io) "PC9/TIM3_CH4/LCD_SEG27/SDIO_D1", 67 PA8 (io) "PA8/USART1_CK/MCO/LCD_COM0", 68 PA9 (io) "PA9/USART1_TX/LCD_COM1", 69 PA10 (io) "PA10/USART1_RX/LCD_COM2", 70 PA11 (io) "PA11/USART1_CTS/USB_DM/SPI1_MISO", 71 PA12 (io) "PA12/USART1_RTS/USB_DP/SPI1_MOSI", 72 PA13 (io) "PA13/JTMS-SWDAT", 73 PH2 (io) "PH2/FSMC_A22", 76 PA14 (io) "PA14/JTCK-SWCLK", 77 PA15 (io) "PA15/JTDI/TIM2_CH1_ETR/SPI1_NSS/SPI3_NSS/I2S3_WS/LCD_SEG17", 78 PC10 (io) "PC10/SPI3_SCK/I2S3_CK/USART3_TX/UART4_TX/LCD_SEG28/LCD_SEG40/LCD_COM4/SDIO_D2", 79 PC11 (io) "PC11/SPI3_MISO/USART3_RX/UART4_RX/LCD_SEG29/LCD_SEG41/LCD_COM5/SDIO_D3", 80 PC12 (io) "PC12/SPI3_MOSI/I2S3_SD/USART3_CK/UART5_TX/LCD_SEG30/LCD_SEG42/LCD_COM6/SDIO_CK", 81 PD0 (io) "PD0/TIM9_CH1/SPI2_NSS/I2S2_WS/FSMC_D2", 82 PD1 (io) "PD1/SPI2_SCK/I2S2_CK/FSMC_D3", 83 PD2 (io) "PD2/TIM3_ETR/UART5_RX/LCD_SEG31/LCD_SEG43/LCD_COM7/SDIO_CMD", 84 PD3 (io) "PD3/SPI2_MISO/USART2_CTS/FSMC_CLK", 85 PD4 (io) "PD4/SPI2_MOSI/I2S2_SD/USART2_RTS/FSMC_NOE", 86 PD5 (io) "PD5/USART2_TX/FSMC_NWE", 87 PD6 (io) "PD6/USART2_RX/FSMC_NWAIT", 88 PD7 (io) "PD7/TIM9_CH2/USART2_CK/FSMC_NE1", 89 PB3 (io) "PB3/JTDO/TIM2_CH2/SPI1_SCK/SPI3_SCK/I2S3_CK/LCD_SEG7/COMP2_INM", 90 PB4 (io) "PB4/NJTRST/TIM3_CH1/SPI1_MISO/SPI3_MISO/LCD_SEG8/COMP2_INP", 91 PB5 (io) "PB5/TIM3_CH2/I2C1_SMBA/SPI1_MOSI/SPI3_MOSI/I2S3_SD/LCD_SEG9/COMP2_INP", 92 PB6 (io) "PB6/TIM4_CH1/I2C1_SCL/USART1_TX/COMP2_INP", 93 PB7 (io) "PB7/TIM4_CH2/I2C1_SDA/USART1_RX/PVD_IN/FSMC_NADV/COMP2_INP", 94 BOOT0 (in), 95 PB8 (io) "PB8/TIM4_CH3/TIM10_CH1/I2C1_SCL/LCD_SEG16/SDIO_D4", 96 PB9 (io) "PB9/TIM4_CH4/TIM11_CH1/I2C1_SDA/LCD_COM3/SDIO_D5", 97 PE0 (io) "PE0/TIM4_ETR/TIM10_CH1/LCD_SEG36/FSMC_NBL0", 98 PE1 (io) "PE1/TIM11_CH1/LCD_SEG37/FSMC_NBL1"
part B pins: 6 VLCD (power), 10 VSS_5 (power), 11 VDD_5 (power), 19 VSSA (power), 20 VREF- (power), 21 VREF+ (power), 22 VDDA (power), 27 VSS_4 (power), 28 VDD_4 (power), 49 VSS_1 (power), 50 VDD_1 (power), 74 VSS_2 (power), 75 VDD_2 (power), 99 VSS_3 (power), 100 VDD_3 (power)

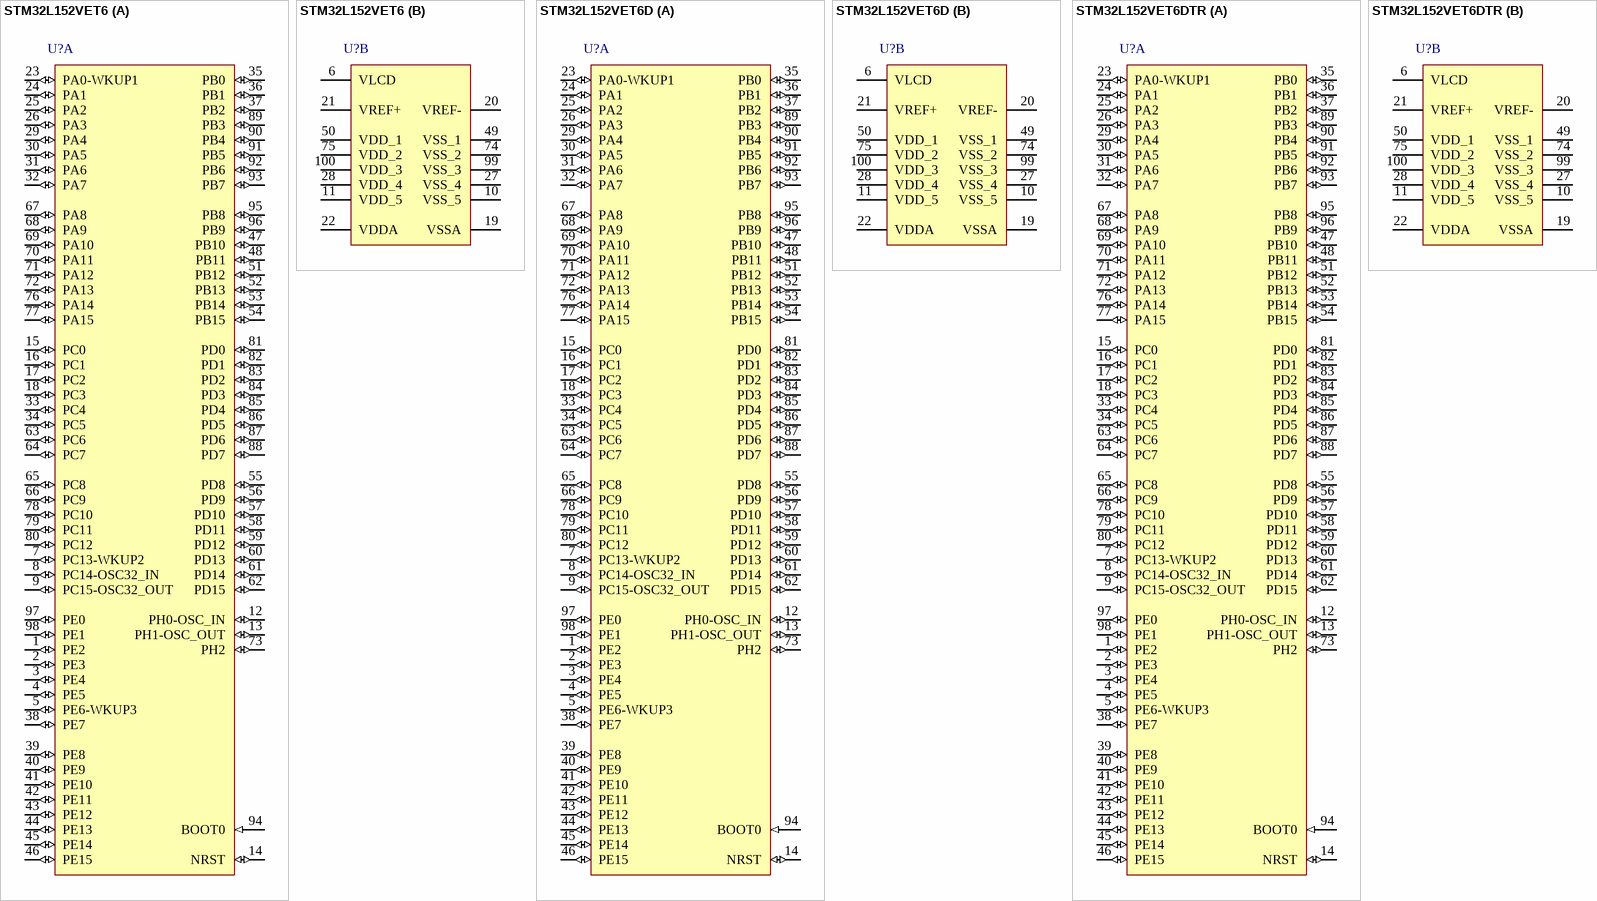
[diagram p24: symbols STM32L152VET6 to STM32L152VET6DTR]

## STM32L152VET6
designator U?
ARM Cortex-M3 32-bit MCU, 512 KB Flash, 80 KB Internal RAM, 83 I/Os, 100-pin LQFP, -40 to 85 degC, Tray; Manufacturer: STMicroelectronics; PartNumber: STM32L152VET6; D/A Converter: 2x12-bit (2 Channel); Data E2PROM nom (kB): 16; FLASH Size (Prog) (kB): 512; I/Os (High Current): 83; Internal RAM Size (kB): 80; Operating Frequency(F) (Processor speed) (MHz): 32; Supply Voltage (V): 1.8 to 3.6 V; DatasheetVersion: Rev. 4; PackageVersion: Rev. 4; PackageReference: LQFP100; PackageDescription: 100-Pin Low Profile Quad Flat Package, Body 14 x 14 mm, Pitch 0.5 mm; Core: ARM Cortex-M3; Temperature Range: -40 to 85 degC; Packing: Tray; Mounting Technology: Surface Mount; ComponentLink1Description: Manufacturer URL; ComponentLink1URL: http://www.st.com/web/en/home.html; ComponentLink2Description: Datasheet; ComponentLink2URL: http://www.st.com/st-web-ui/static/active/en/resource/technical/document/datasheet/DM00098321.pdf; ComponentLink3Description: Package Specification; ComponentLink3URL: http://www.st.com/st-web-ui/static/active/en/resource/technical/document/datasheet/DM00098321.pdf
footprint STM-LQFP100_N (Thin QFP, 100-Leads, Body 14x14mm, Pitch 0.5mm, IPC Medium Density)
footprint STM-LQFP100_L (Thin QFP, 100-Leads, Body 14x14mm, Pitch 0.5mm, IPC High Density)
footprint STM-LQFP100_M (Thin QFP, 100-Leads, Body 14x14mm, Pitch 0.5mm, IPC Low Density)
footprint STM-LQFP100_V (Thin QFP, 100-Leads, Body 14x14mm, Pitch 0.5mm, ST Recommended)
part A pins: 1 PE2 (io) "PE2/TIM3_ETR/LCD_SEG38/TRACECLK", 2 PE3 (io) "PE3/TIM3_CH1/LCD_SEG39/TRACED0", 3 PE4 (io) "PE4/TIM3_CH2/TRACED1", 4 PE5 (io) "PE5/TIM9_CH1/TRACED2", 5 PE6-WKUP3 (io) "PE6-WKUP3/PE6/WKUP3/RTC_TAMP3/TIM9_CH2/TRACED3", 7 PC13-WKUP2 (io) "PC13-WKUP2/PC13/WKUP2/RTC_TAMP1/RTC_TS/RTC_OUT", 8 PC14-OSC32_IN (io) "PC14-OSC32_IN/PC14/OSC32_IN", 9 PC15-OSC32_OUT (io) "PC15-OSC32_OUT/PC15/OSC32_OUT", 12 PH0-OSC_IN (io) "PH0-OSC_IN/PH0/OSC_IN", 13 PH1-OSC_OUT (io) "PH1-OSC_OUT/PH1/OSC_OUT", 14 NRST (io), 15 PC0 (io) "PC0/LCD_SEG18/ADC_IN10/COMP1_INP", 16 PC1 (io) "PC1/LCD_SEG19/ADC_IN11/COMP1_INP", 17 PC2 (io) "PC2/LCD_SEG20/ADC_IN12/COMP1_INP", 18 PC3 (io) "PC3/LCD_SEG21/ADC_IN13/COMP1_INP", 23 PA0-WKUP1 (io) "PA0-WKUP1/PA0/WKUP1/RTC_TAMP2/TIM2_CH1_ETR/TIM5_CH1/USART2_CTS/ADC_IN0/COMP1_INP", 24 PA1 (io) "PA1/TIM2_CH2/TIM5_CH2/USART2_RTS/LCD_SEG0/ADC_IN1/COMP1_INP/OPAMP1_VINP", 25 PA2 (io) "PA2/TIM2_CH3/TIM5_CH3/TIM9_CH1/USART2_TX/LCD_SEG1/ADC_IN2/COMP1_INP/OPAMP1_VINM", 26 PA3 (io) "PA3/TIM2_CH4/TIM5_CH4/TIM9_CH2/USART2_RX/LCD_SEG2/ADC_IN3/COMP1_INP/OPAMP1_VOUT", 29 PA4 (io) "PA4/SPI1_NSS/SPI3_NSS/I2S3_WS/USART2_CK/ADC_IN4/DAC_OUT1/COMP1_INP", 30 PA5 (io) "PA5/TIM2_CH1_ETR/SPI1_SCK/ADC_IN5/DAC_OUT2/COMP1_INP", 31 PA6 (io) "PA6/TIM3_CH1/TIM10_CH1/SPI1_MISO/LCD_SEG3/ADC_IN6/COMP1_INP/OPAMP2_VINP", 32 PA7 (io) "PA7/TIM3_CH2/TIM11_CH1/SPI1_MOSI/LCD_SEG4/ADC_IN7/COMP1_INP/OPAMP2_VINM", 33 PC4 (io) "PC4/LCD_SEG22/ADC_IN14/COMP1_INP", 34 PC5 (io) "PC5/LCD_SEG23/ADC_IN15/COMP1_INP", 35 PB0 (io) "PB0/TIM3_CH3/LCD_SEG5/ADC_IN8/COMP1_INP/VREF_OUT/OPAMP2_VOUT", 36 PB1 (io) "PB1/TIM3_CH4/LCD_SEG6/ADC_IN9/COMP1_INP/VREF_OUT", 37 PB2 (io) "PB2/BOOT1/COMP1_INP", 38 PE7 (io) "PE7/ADC_IN22/COMP1_INP", 39 PE8 (io) "PE8/ADC_IN23/COMP1_INP", 40 PE9 (io) "PE9/TIM2_CH1_ETR/ADC_IN24/COMP1_INP", 41 PE10 (io) "PE10/TIM2_CH2/ADC_IN25/COMP1_INP", 42 PE11 (io) "PE11/TIM2_CH3", 43 PE12 (io) "PE12/TIM2_CH4/SPI1_NSS", 44 PE13 (io) "PE13/SPI1_SCK", 45 PE14 (io) "PE14/SPI1_MISO", 46 PE15 (io) "PE15/SPI1_MOSI", 47 PB10 (io) "PB10/TIM2_CH3/I2C2_SCL/USART3_TX/LCD_SEG10", 48 PB11 (io) "PB11/TIM2_CH4/I2C2_SDA/USART3_RX/LCD_SEG11", 51 PB12 (io) "PB12/TIM10_CH1/I2C2_SMBA/SPI2_NSS/I2S2_WS/USART3_CK/LCD_SEG12/ADC_IN18/COMP1_INP", 52 PB13 (io) "PB13/TIM9_CH1/SPI2_SCK/I2S2_CK/USART3_CTS/LCD_SEG13/ADC_IN19/COMP1_INP", 53 PB14 (io) "PB14/TIM9_CH2/SPI2_MISO/USART3_RTS/LCD_SEG14/ADC_IN20/COMP1_INP", 54 PB15 (io) "PB15/TIM11_CH1/SPI2_MOSI/I2S2_SD/LCD_SEG15/ADC_IN21/COMP1_INP/RTC_REFIN", 55 PD8 (io) "PD8/USART3_TX/LCD_SEG28", 56 PD9 (io) "PD9/USART3_RX/LCD_SEG29", 57 PD10 (io) "PD10/USART3_CK/LCD_SEG30", 58 PD11 (io) "PD11/USART3_CTS/LCD_SEG31", 59 PD12 (io) "PD12/TIM4_CH1/USART3_RTS/LCD_SEG32", 60 PD13 (io) "PD13/TIM4_CH2/LCD_SEG33", 61 PD14 (io) "PD14/TIM4_CH3/LCD_SEG34", 62 PD15 (io) "PD15/TIM4_CH4/LCD_SEG35", 63 PC6 (io) "PC6/TIM3_CH1/I2S2_MCK/LCD_SEG24", 64 PC7 (io) "PC7/TIM3_CH2/I2S3_MCK/LCD_SEG25", 65 PC8 (io) "PC8/TIM3_CH3/LCD_SEG26", 66 PC9 (io) "PC9/TIM3_CH4/LCD_SEG27", 67 PA8 (io) "PA8/USART1_CK/MCO/LCD_COM0", 68 PA9 (io) "PA9/USART1_TX/LCD_COM1", 69 PA10 (io) "PA10/USART1_RX/LCD_COM2", 70 PA11 (io) "PA11/USART1_CTS/USB_DM/SPI1_MISO", 71 PA12 (io) "PA12/USART1_RTS/USB_DP/SPI1_MOSI", 72 PA13 (io) "PA13/JTMS-SWDAT", 73 PH2 (io), 76 PA14 (io) "PA14/JTCK-SWCLK", 77 PA15 (io) "PA15/JTDI/TIM2_CH1_ETR/SPI1_NSS/SPI3_NSS/I2S3_WS/LCD_SEG17", 78 PC10 (io) "PC10/SPI3_SCK/I2S3_CK/USART3_TX/UART4_TX/LCD_SEG28/LCD_SEG40/LCD_COM4", 79 PC11 (io) "PC11/SPI3_MISO/USART3_RX/UART4_RX/LCD_SEG29/LCD_SEG41/LCD_COM5", 80 PC12 (io) "PC12/SPI3_MOSI/I2S3_SD/USART3_CK/UART5_TX/LCD_SEG30/LCD_SEG42/LCD_COM6", 81 PD0 (io) "PD0/TIM9_CH1/SPI2_NSS/I2S2_WS", 82 PD1 (io) "PD1/SPI2_SCK/I2S2_CK", 83 PD2 (io) "PD2/TIM3_ETR/UART5_RX/LCD_SEG31/LCD_SEG43/LCD_COM7", 84 PD3 (io) "PD3/SPI2_MISO/USART2_CTS", 85 PD4 (io) "PD4/SPI2_MOSI/I2S2_SD/USART2_RTS", 86 PD5 (io) "PD5/USART2_TX", 87 PD6 (io) "PD6/USART2_RX", 88 PD7 (io) "PD7/TIM9_CH2/USART2_CK", 89 PB3 (io) "PB3/JTDO/TIM2_CH2/SPI1_SCK/SPI3_SCK/I2S3_CK/LCD_SEG7/COMP2_INM", 90 PB4 (io) "PB4/NJTRST/TIM3_CH1/SPI1_MISO/SPI3_MISO/LCD_SEG8/COMP2_INP", 91 PB5 (io) "PB5/TIM3_CH2/I2C1_SMBA/SPI1_MOSI/SPI3_MOSI/I2S3_SD/LCD_SEG9/COMP2_INP", 92 PB6 (io) "PB6/TIM4_CH1/I2C1_SCL/USART1_TX/COMP2_INP", 93 PB7 (io) "PB7/TIM4_CH2/I2C1_SDA/USART1_RX/PVD_IN/COMP2_INP", 94 BOOT0 (in), 95 PB8 (io) "PB8/TIM4_CH3/TIM10_CH1/I2C1_SCL/LCD_SEG16", 96 PB9 (io) "PB9/TIM4_CH4/TIM11_CH1/I2C1_SDA/LCD_COM3", 97 PE0 (io) "PE0/TIM4_ETR/TIM10_CH1/LCD_SEG36", 98 PE1 (io) "PE1/TIM11_CH1/LCD_SEG37"
part B pins: 6 VLCD (power), 10 VSS_5 (power), 11 VDD_5 (power), 19 VSSA (power), 20 VREF- (power), 21 VREF+ (power), 22 VDDA (power), 27 VSS_4 (power), 28 VDD_4 (power), 49 VSS_1 (power), 50 VDD_1 (power), 74 VSS_2 (power), 75 VDD_2 (power), 99 VSS_3 (power), 100 VDD_3 (power)

## STM32L152VET6D
designator U?
ARM Cortex-M3 32-bit MCU, 512 KB Flash, 80 KB Internal RAM, 83 I/Os, 100-pin LQFP, -40 to 85 degC, Tray; Manufacturer: STMicroelectronics; PartNumber: STM32L152VET6D; D/A Converter: 2x12-bit (2 Channel); Data E2PROM nom (kB): 16; FLASH Size (Prog) (kB): 512; I/Os (High Current): 83; Internal RAM Size (kB): 80; Operating Frequency(F) (Processor speed) (MHz): 32; Supply Voltage (V): 1.65 to 3.6 V; DatasheetVersion: Rev. 4; PackageVersion: Rev. 4; PackageReference: LQFP100; PackageDescription: 100-Pin Low Profile Quad Flat Package, Body 14 x 14 mm, Pitch 0.5 mm; Core: ARM Cortex-M3; Temperature Range: -40 to 85 degC; Packing: Tray; Mounting Technology: Surface Mount; ComponentLink1Description: Manufacturer URL; ComponentLink1URL: http://www.st.com/web/en/home.html; ComponentLink2Description: Datasheet; ComponentLink2URL: http://www.st.com/st-web-ui/static/active/en/resource/technical/document/datasheet/DM00098321.pdf; ComponentLink3Description: Package Specification; ComponentLink3URL: http://www.st.com/st-web-ui/static/active/en/resource/technical/document/datasheet/DM00098321.pdf
footprint STM-LQFP100_N (Thin QFP, 100-Leads, Body 14x14mm, Pitch 0.5mm, IPC Medium Density)
footprint STM-LQFP100_L (Thin QFP, 100-Leads, Body 14x14mm, Pitch 0.5mm, IPC High Density)
footprint STM-LQFP100_M (Thin QFP, 100-Leads, Body 14x14mm, Pitch 0.5mm, IPC Low Density)
footprint STM-LQFP100_V (Thin QFP, 100-Leads, Body 14x14mm, Pitch 0.5mm, ST Recommended)
part A pins: 1 PE2 (io) "PE2/TIM3_ETR/LCD_SEG38/TRACECLK", 2 PE3 (io) "PE3/TIM3_CH1/LCD_SEG39/TRACED0", 3 PE4 (io) "PE4/TIM3_CH2/TRACED1", 4 PE5 (io) "PE5/TIM9_CH1/TRACED2", 5 PE6-WKUP3 (io) "PE6-WKUP3/PE6/WKUP3/RTC_TAMP3/TIM9_CH2/TRACED3", 7 PC13-WKUP2 (io) "PC13-WKUP2/PC13/WKUP2/RTC_TAMP1/RTC_TS/RTC_OUT", 8 PC14-OSC32_IN (io) "PC14-OSC32_IN/PC14/OSC32_IN", 9 PC15-OSC32_OUT (io) "PC15-OSC32_OUT/PC15/OSC32_OUT", 12 PH0-OSC_IN (io) "PH0-OSC_IN/PH0/OSC_IN", 13 PH1-OSC_OUT (io) "PH1-OSC_OUT/PH1/OSC_OUT", 14 NRST (io), 15 PC0 (io) "PC0/LCD_SEG18/ADC_IN10/COMP1_INP", 16 PC1 (io) "PC1/LCD_SEG19/ADC_IN11/COMP1_INP", 17 PC2 (io) "PC2/LCD_SEG20/ADC_IN12/COMP1_INP", 18 PC3 (io) "PC3/LCD_SEG21/ADC_IN13/COMP1_INP", 23 PA0-WKUP1 (io) "PA0-WKUP1/PA0/WKUP1/RTC_TAMP2/TIM2_CH1_ETR/TIM5_CH1/USART2_CTS/ADC_IN0/COMP1_INP", 24 PA1 (io) "PA1/TIM2_CH2/TIM5_CH2/USART2_RTS/LCD_SEG0/ADC_IN1/COMP1_INP/OPAMP1_VINP", 25 PA2 (io) "PA2/TIM2_CH3/TIM5_CH3/TIM9_CH1/USART2_TX/LCD_SEG1/ADC_IN2/COMP1_INP/OPAMP1_VINM", 26 PA3 (io) "PA3/TIM2_CH4/TIM5_CH4/TIM9_CH2/USART2_RX/LCD_SEG2/ADC_IN3/COMP1_INP/OPAMP1_VOUT", 29 PA4 (io) "PA4/SPI1_NSS/SPI3_NSS/I2S3_WS/USART2_CK/ADC_IN4/DAC_OUT1/COMP1_INP", 30 PA5 (io) "PA5/TIM2_CH1_ETR/SPI1_SCK/ADC_IN5/DAC_OUT2/COMP1_INP", 31 PA6 (io) "PA6/TIM3_CH1/TIM10_CH1/SPI1_MISO/LCD_SEG3/ADC_IN6/COMP1_INP/OPAMP2_VINP", 32 PA7 (io) "PA7/TIM3_CH2/TIM11_CH1/SPI1_MOSI/LCD_SEG4/ADC_IN7/COMP1_INP/OPAMP2_VINM", 33 PC4 (io) "PC4/LCD_SEG22/ADC_IN14/COMP1_INP", 34 PC5 (io) "PC5/LCD_SEG23/ADC_IN15/COMP1_INP", 35 PB0 (io) "PB0/TIM3_CH3/LCD_SEG5/ADC_IN8/COMP1_INP/VREF_OUT/OPAMP2_VOUT", 36 PB1 (io) "PB1/TIM3_CH4/LCD_SEG6/ADC_IN9/COMP1_INP/VREF_OUT", 37 PB2 (io) "PB2/BOOT1/COMP1_INP", 38 PE7 (io) "PE7/ADC_IN22/COMP1_INP", 39 PE8 (io) "PE8/ADC_IN23/COMP1_INP", 40 PE9 (io) "PE9/TIM2_CH1_ETR/ADC_IN24/COMP1_INP", 41 PE10 (io) "PE10/TIM2_CH2/ADC_IN25/COMP1_INP", 42 PE11 (io) "PE11/TIM2_CH3", 43 PE12 (io) "PE12/TIM2_CH4/SPI1_NSS", 44 PE13 (io) "PE13/SPI1_SCK", 45 PE14 (io) "PE14/SPI1_MISO", 46 PE15 (io) "PE15/SPI1_MOSI", 47 PB10 (io) "PB10/TIM2_CH3/I2C2_SCL/USART3_TX/LCD_SEG10", 48 PB11 (io) "PB11/TIM2_CH4/I2C2_SDA/USART3_RX/LCD_SEG11", 51 PB12 (io) "PB12/TIM10_CH1/I2C2_SMBA/SPI2_NSS/I2S2_WS/USART3_CK/LCD_SEG12/ADC_IN18/COMP1_INP", 52 PB13 (io) "PB13/TIM9_CH1/SPI2_SCK/I2S2_CK/USART3_CTS/LCD_SEG13/ADC_IN19/COMP1_INP", 53 PB14 (io) "PB14/TIM9_CH2/SPI2_MISO/USART3_RTS/LCD_SEG14/ADC_IN20/COMP1_INP", 54 PB15 (io) "PB15/TIM11_CH1/SPI2_MOSI/I2S2_SD/LCD_SEG15/ADC_IN21/COMP1_INP/RTC_REFIN", 55 PD8 (io) "PD8/USART3_TX/LCD_SEG28", 56 PD9 (io) "PD9/USART3_RX/LCD_SEG29", 57 PD10 (io) "PD10/USART3_CK/LCD_SEG30", 58 PD11 (io) "PD11/USART3_CTS/LCD_SEG31", 59 PD12 (io) "PD12/TIM4_CH1/USART3_RTS/LCD_SEG32", 60 PD13 (io) "PD13/TIM4_CH2/LCD_SEG33", 61 PD14 (io) "PD14/TIM4_CH3/LCD_SEG34", 62 PD15 (io) "PD15/TIM4_CH4/LCD_SEG35", 63 PC6 (io) "PC6/TIM3_CH1/I2S2_MCK/LCD_SEG24", 64 PC7 (io) "PC7/TIM3_CH2/I2S3_MCK/LCD_SEG25", 65 PC8 (io) "PC8/TIM3_CH3/LCD_SEG26", 66 PC9 (io) "PC9/TIM3_CH4/LCD_SEG27", 67 PA8 (io) "PA8/USART1_CK/MCO/LCD_COM0", 68 PA9 (io) "PA9/USART1_TX/LCD_COM1", 69 PA10 (io) "PA10/USART1_RX/LCD_COM2", 70 PA11 (io) "PA11/USART1_CTS/USB_DM/SPI1_MISO", 71 PA12 (io) "PA12/USART1_RTS/USB_DP/SPI1_MOSI", 72 PA13 (io) "PA13/JTMS-SWDAT", 73 PH2 (io), 76 PA14 (io) "PA14/JTCK-SWCLK", 77 PA15 (io) "PA15/JTDI/TIM2_CH1_ETR/SPI1_NSS/SPI3_NSS/I2S3_WS/LCD_SEG17", 78 PC10 (io) "PC10/SPI3_SCK/I2S3_CK/USART3_TX/UART4_TX/LCD_SEG28/LCD_SEG40/LCD_COM4", 79 PC11 (io) "PC11/SPI3_MISO/USART3_RX/UART4_RX/LCD_SEG29/LCD_SEG41/LCD_COM5", 80 PC12 (io) "PC12/SPI3_MOSI/I2S3_SD/USART3_CK/UART5_TX/LCD_SEG30/LCD_SEG42/LCD_COM6", 81 PD0 (io) "PD0/TIM9_CH1/SPI2_NSS/I2S2_WS", 82 PD1 (io) "PD1/SPI2_SCK/I2S2_CK", 83 PD2 (io) "PD2/TIM3_ETR/UART5_RX/LCD_SEG31/LCD_SEG43/LCD_COM7", 84 PD3 (io) "PD3/SPI2_MISO/USART2_CTS", 85 PD4 (io) "PD4/SPI2_MOSI/I2S2_SD/USART2_RTS", 86 PD5 (io) "PD5/USART2_TX", 87 PD6 (io) "PD6/USART2_RX", 88 PD7 (io) "PD7/TIM9_CH2/USART2_CK", 89 PB3 (io) "PB3/JTDO/TIM2_CH2/SPI1_SCK/SPI3_SCK/I2S3_CK/LCD_SEG7/COMP2_INM", 90 PB4 (io) "PB4/NJTRST/TIM3_CH1/SPI1_MISO/SPI3_MISO/LCD_SEG8/COMP2_INP", 91 PB5 (io) "PB5/TIM3_CH2/I2C1_SMBA/SPI1_MOSI/SPI3_MOSI/I2S3_SD/LCD_SEG9/COMP2_INP", 92 PB6 (io) "PB6/TIM4_CH1/I2C1_SCL/USART1_TX/COMP2_INP", 93 PB7 (io) "PB7/TIM4_CH2/I2C1_SDA/USART1_RX/PVD_IN/COMP2_INP", 94 BOOT0 (in), 95 PB8 (io) "PB8/TIM4_CH3/TIM10_CH1/I2C1_SCL/LCD_SEG16", 96 PB9 (io) "PB9/TIM4_CH4/TIM11_CH1/I2C1_SDA/LCD_COM3", 97 PE0 (io) "PE0/TIM4_ETR/TIM10_CH1/LCD_SEG36", 98 PE1 (io) "PE1/TIM11_CH1/LCD_SEG37"
part B pins: 6 VLCD (power), 10 VSS_5 (power), 11 VDD_5 (power), 19 VSSA (power), 20 VREF- (power), 21 VREF+ (power), 22 VDDA (power), 27 VSS_4 (power), 28 VDD_4 (power), 49 VSS_1 (power), 50 VDD_1 (power), 74 VSS_2 (power), 75 VDD_2 (power), 99 VSS_3 (power), 100 VDD_3 (power)

## STM32L152VET6DTR
designator U?
ARM Cortex-M3 32-bit MCU, 512 KB Flash, 80 KB Internal RAM, 83 I/Os, 100-pin LQFP, -40 to 85 degC, Tape and Reel; Manufacturer: STMicroelectronics; PartNumber: STM32L152VET6DTR; D/A Converter: 2x12-bit (2 Channel); Data E2PROM nom (kB): 16; FLASH Size (Prog) (kB): 512; I/Os (High Current): 83; Internal RAM Size (kB): 80; Operating Frequency(F) (Processor speed) (MHz): 32; Supply Voltage (V): 1.65 to 3.6 V; DatasheetVersion: Rev. 4; PackageVersion: Rev. 4; PackageReference: LQFP100; PackageDescription: 100-Pin Low Profile Quad Flat Package, Body 14 x 14 mm, Pitch 0.5 mm; Core: ARM Cortex-M3; Temperature Range: -40 to 85 degC; Packing: Tape and Reel; Mounting Technology: Surface Mount; ComponentLink1Description: Manufacturer URL; ComponentLink1URL: http://www.st.com/web/en/home.html; ComponentLink2Description: Datasheet; ComponentLink2URL: http://www.st.com/st-web-ui/static/active/en/resource/technical/document/datasheet/DM00098321.pdf; ComponentLink3Description: Package Specification; ComponentLink3URL: http://www.st.com/st-web-ui/static/active/en/resource/technical/document/datasheet/DM00098321.pdf
footprint STM-LQFP100_N (Thin QFP, 100-Leads, Body 14x14mm, Pitch 0.5mm, IPC Medium Density)
footprint STM-LQFP100_L (Thin QFP, 100-Leads, Body 14x14mm, Pitch 0.5mm, IPC High Density)
footprint STM-LQFP100_M (Thin QFP, 100-Leads, Body 14x14mm, Pitch 0.5mm, IPC Low Density)
footprint STM-LQFP100_V (Thin QFP, 100-Leads, Body 14x14mm, Pitch 0.5mm, ST Recommended)
part A pins: 1 PE2 (io) "PE2/TIM3_ETR/LCD_SEG38/TRACECLK", 2 PE3 (io) "PE3/TIM3_CH1/LCD_SEG39/TRACED0", 3 PE4 (io) "PE4/TIM3_CH2/TRACED1", 4 PE5 (io) "PE5/TIM9_CH1/TRACED2", 5 PE6-WKUP3 (io) "PE6-WKUP3/PE6/WKUP3/RTC_TAMP3/TIM9_CH2/TRACED3", 7 PC13-WKUP2 (io) "PC13-WKUP2/PC13/WKUP2/RTC_TAMP1/RTC_TS/RTC_OUT", 8 PC14-OSC32_IN (io) "PC14-OSC32_IN/PC14/OSC32_IN", 9 PC15-OSC32_OUT (io) "PC15-OSC32_OUT/PC15/OSC32_OUT", 12 PH0-OSC_IN (io) "PH0-OSC_IN/PH0/OSC_IN", 13 PH1-OSC_OUT (io) "PH1-OSC_OUT/PH1/OSC_OUT", 14 NRST (io), 15 PC0 (io) "PC0/LCD_SEG18/ADC_IN10/COMP1_INP", 16 PC1 (io) "PC1/LCD_SEG19/ADC_IN11/COMP1_INP", 17 PC2 (io) "PC2/LCD_SEG20/ADC_IN12/COMP1_INP", 18 PC3 (io) "PC3/LCD_SEG21/ADC_IN13/COMP1_INP", 23 PA0-WKUP1 (io) "PA0-WKUP1/PA0/WKUP1/RTC_TAMP2/TIM2_CH1_ETR/TIM5_CH1/USART2_CTS/ADC_IN0/COMP1_INP", 24 PA1 (io) "PA1/TIM2_CH2/TIM5_CH2/USART2_RTS/LCD_SEG0/ADC_IN1/COMP1_INP/OPAMP1_VINP", 25 PA2 (io) "PA2/TIM2_CH3/TIM5_CH3/TIM9_CH1/USART2_TX/LCD_SEG1/ADC_IN2/COMP1_INP/OPAMP1_VINM", 26 PA3 (io) "PA3/TIM2_CH4/TIM5_CH4/TIM9_CH2/USART2_RX/LCD_SEG2/ADC_IN3/COMP1_INP/OPAMP1_VOUT", 29 PA4 (io) "PA4/SPI1_NSS/SPI3_NSS/I2S3_WS/USART2_CK/ADC_IN4/DAC_OUT1/COMP1_INP", 30 PA5 (io) "PA5/TIM2_CH1_ETR/SPI1_SCK/ADC_IN5/DAC_OUT2/COMP1_INP", 31 PA6 (io) "PA6/TIM3_CH1/TIM10_CH1/SPI1_MISO/LCD_SEG3/ADC_IN6/COMP1_INP/OPAMP2_VINP", 32 PA7 (io) "PA7/TIM3_CH2/TIM11_CH1/SPI1_MOSI/LCD_SEG4/ADC_IN7/COMP1_INP/OPAMP2_VINM", 33 PC4 (io) "PC4/LCD_SEG22/ADC_IN14/COMP1_INP", 34 PC5 (io) "PC5/LCD_SEG23/ADC_IN15/COMP1_INP", 35 PB0 (io) "PB0/TIM3_CH3/LCD_SEG5/ADC_IN8/COMP1_INP/VREF_OUT/OPAMP2_VOUT", 36 PB1 (io) "PB1/TIM3_CH4/LCD_SEG6/ADC_IN9/COMP1_INP/VREF_OUT", 37 PB2 (io) "PB2/BOOT1/COMP1_INP", 38 PE7 (io) "PE7/ADC_IN22/COMP1_INP", 39 PE8 (io) "PE8/ADC_IN23/COMP1_INP", 40 PE9 (io) "PE9/TIM2_CH1_ETR/ADC_IN24/COMP1_INP", 41 PE10 (io) "PE10/TIM2_CH2/ADC_IN25/COMP1_INP", 42 PE11 (io) "PE11/TIM2_CH3", 43 PE12 (io) "PE12/TIM2_CH4/SPI1_NSS", 44 PE13 (io) "PE13/SPI1_SCK", 45 PE14 (io) "PE14/SPI1_MISO", 46 PE15 (io) "PE15/SPI1_MOSI", 47 PB10 (io) "PB10/TIM2_CH3/I2C2_SCL/USART3_TX/LCD_SEG10", 48 PB11 (io) "PB11/TIM2_CH4/I2C2_SDA/USART3_RX/LCD_SEG11", 51 PB12 (io) "PB12/TIM10_CH1/I2C2_SMBA/SPI2_NSS/I2S2_WS/USART3_CK/LCD_SEG12/ADC_IN18/COMP1_INP", 52 PB13 (io) "PB13/TIM9_CH1/SPI2_SCK/I2S2_CK/USART3_CTS/LCD_SEG13/ADC_IN19/COMP1_INP", 53 PB14 (io) "PB14/TIM9_CH2/SPI2_MISO/USART3_RTS/LCD_SEG14/ADC_IN20/COMP1_INP", 54 PB15 (io) "PB15/TIM11_CH1/SPI2_MOSI/I2S2_SD/LCD_SEG15/ADC_IN21/COMP1_INP/RTC_REFIN", 55 PD8 (io) "PD8/USART3_TX/LCD_SEG28", 56 PD9 (io) "PD9/USART3_RX/LCD_SEG29", 57 PD10 (io) "PD10/USART3_CK/LCD_SEG30", 58 PD11 (io) "PD11/USART3_CTS/LCD_SEG31", 59 PD12 (io) "PD12/TIM4_CH1/USART3_RTS/LCD_SEG32", 60 PD13 (io) "PD13/TIM4_CH2/LCD_SEG33", 61 PD14 (io) "PD14/TIM4_CH3/LCD_SEG34", 62 PD15 (io) "PD15/TIM4_CH4/LCD_SEG35", 63 PC6 (io) "PC6/TIM3_CH1/I2S2_MCK/LCD_SEG24", 64 PC7 (io) "PC7/TIM3_CH2/I2S3_MCK/LCD_SEG25", 65 PC8 (io) "PC8/TIM3_CH3/LCD_SEG26", 66 PC9 (io) "PC9/TIM3_CH4/LCD_SEG27", 67 PA8 (io) "PA8/USART1_CK/MCO/LCD_COM0", 68 PA9 (io) "PA9/USART1_TX/LCD_COM1", 69 PA10 (io) "PA10/USART1_RX/LCD_COM2", 70 PA11 (io) "PA11/USART1_CTS/USB_DM/SPI1_MISO", 71 PA12 (io) "PA12/USART1_RTS/USB_DP/SPI1_MOSI", 72 PA13 (io) "PA13/JTMS-SWDAT", 73 PH2 (io), 76 PA14 (io) "PA14/JTCK-SWCLK", 77 PA15 (io) "PA15/JTDI/TIM2_CH1_ETR/SPI1_NSS/SPI3_NSS/I2S3_WS/LCD_SEG17", 78 PC10 (io) "PC10/SPI3_SCK/I2S3_CK/USART3_TX/UART4_TX/LCD_SEG28/LCD_SEG40/LCD_COM4", 79 PC11 (io) "PC11/SPI3_MISO/USART3_RX/UART4_RX/LCD_SEG29/LCD_SEG41/LCD_COM5", 80 PC12 (io) "PC12/SPI3_MOSI/I2S3_SD/USART3_CK/UART5_TX/LCD_SEG30/LCD_SEG42/LCD_COM6", 81 PD0 (io) "PD0/TIM9_CH1/SPI2_NSS/I2S2_WS", 82 PD1 (io) "PD1/SPI2_SCK/I2S2_CK", 83 PD2 (io) "PD2/TIM3_ETR/UART5_RX/LCD_SEG31/LCD_SEG43/LCD_COM7", 84 PD3 (io) "PD3/SPI2_MISO/USART2_CTS", 85 PD4 (io) "PD4/SPI2_MOSI/I2S2_SD/USART2_RTS", 86 PD5 (io) "PD5/USART2_TX", 87 PD6 (io) "PD6/USART2_RX", 88 PD7 (io) "PD7/TIM9_CH2/USART2_CK", 89 PB3 (io) "PB3/JTDO/TIM2_CH2/SPI1_SCK/SPI3_SCK/I2S3_CK/LCD_SEG7/COMP2_INM", 90 PB4 (io) "PB4/NJTRST/TIM3_CH1/SPI1_MISO/SPI3_MISO/LCD_SEG8/COMP2_INP", 91 PB5 (io) "PB5/TIM3_CH2/I2C1_SMBA/SPI1_MOSI/SPI3_MOSI/I2S3_SD/LCD_SEG9/COMP2_INP", 92 PB6 (io) "PB6/TIM4_CH1/I2C1_SCL/USART1_TX/COMP2_INP", 93 PB7 (io) "PB7/TIM4_CH2/I2C1_SDA/USART1_RX/PVD_IN/COMP2_INP", 94 BOOT0 (in), 95 PB8 (io) "PB8/TIM4_CH3/TIM10_CH1/I2C1_SCL/LCD_SEG16", 96 PB9 (io) "PB9/TIM4_CH4/TIM11_CH1/I2C1_SDA/LCD_COM3", 97 PE0 (io) "PE0/TIM4_ETR/TIM10_CH1/LCD_SEG36", 98 PE1 (io) "PE1/TIM11_CH1/LCD_SEG37"
part B pins: 6 VLCD (power), 10 VSS_5 (power), 11 VDD_5 (power), 19 VSSA (power), 20 VREF- (power), 21 VREF+ (power), 22 VDDA (power), 27 VSS_4 (power), 28 VDD_4 (power), 49 VSS_1 (power), 50 VDD_1 (power), 74 VSS_2 (power), 75 VDD_2 (power), 99 VSS_3 (power), 100 VDD_3 (power)

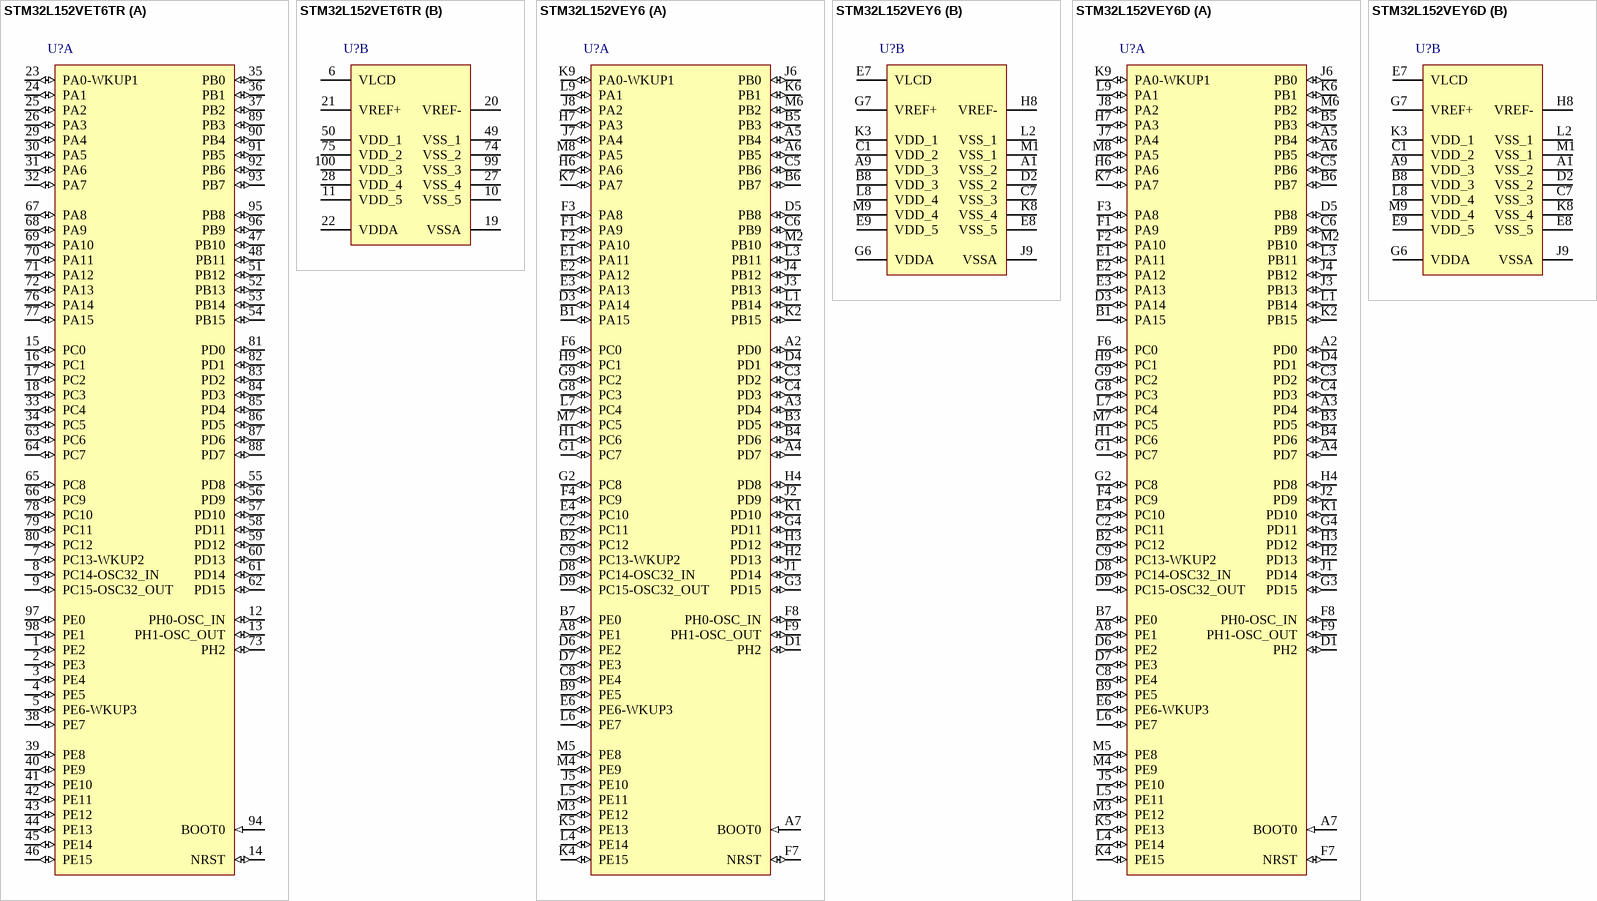
[diagram p25: symbols STM32L152VET6TR to STM32L152VEY6D]